# EAGLE library part LT1763 (library Mine)
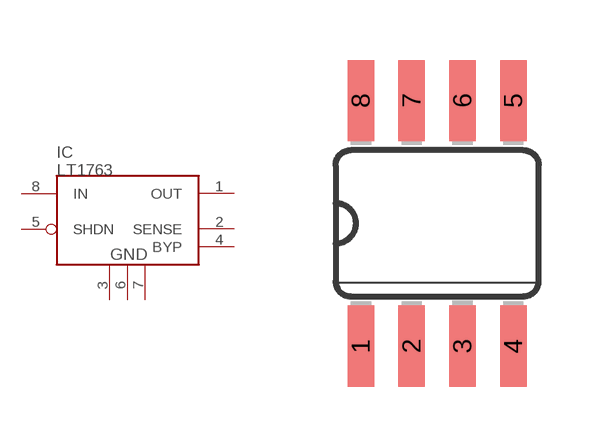
[diagram p20: symbol with the pads of SO08; footprint SO08]

Designator prefix IC

## LT1763  [SO08]
1  OUT  out
2  SENSE  in
3  GND1  pwr
4  BYP  in
5  SHDN  in
6  GND2  pwr
7  GND3  pwr
8  IN  in

## Footprint SO08 (pad centres in mm)
Small Outline package 8 150 mil
smd 0.66 x 2.032: 1 -1.905,-3.073; 2 -0.635,-3.073; 3 0.635,-3.073; 4 1.905,-3.073; 5 1.905,3.073; 6 0.635,3.073; 7 -0.635,3.073; 8 -1.905,3.073